# EAGLE library part ST890* (library STmicro)
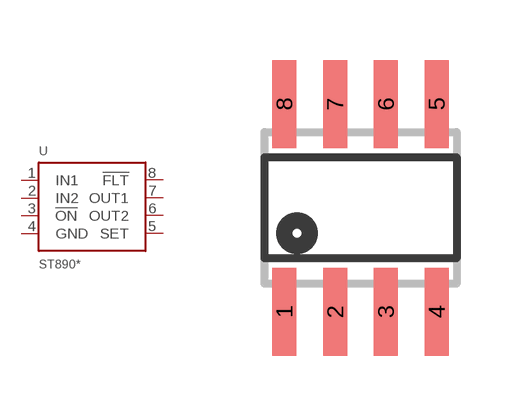
[diagram p1: symbol with the pads of SO08; footprint SO08]

Designator prefix U

## ST890B (MANUFACTURER: STMicro; PACKAGE: SO-8)  [SO08]
1  IN1  pwr
2  IN2  pwr
3  !ON  out
4  GND  pwr
5  SET  pas
6  OUT2  out
7  OUT1  out
8  !FLT  out

## Footprint SO08 (pad centres in mm)
SMALL OUTLINE INTEGRATED CIRCUIT body 3.9 mm/JEDEC MS-012AA
smd 0.6 x 2.2: 1 -1.905,-2.6; 2 -0.635,-2.6; 3 0.635,-2.6; 4 1.905,-2.6; 5 1.905,2.6; 6 0.635,2.6; 7 -0.635,2.6; 8 -1.905,2.6